# Altium footprint library PCB - CAPACITOR - ALUMINIUM - CAP ALSMD ELEC 10MM H12.5MM.pcblib: 1 footprints
Each footprint in its own frame and in the unit in brackets; x right, y up, seen from the top. Pads: shape width x height; smd on the part's side, far side on the other; paste and mask are expansions set on the pad; w line width, h text height; cw(c..) or ccw(c..) is an arc to the next point about the centre after c.
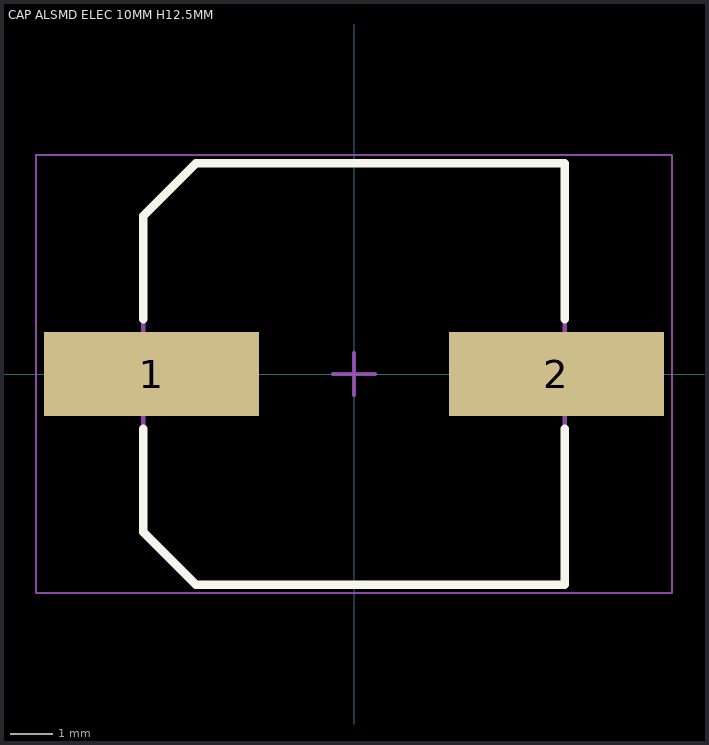
[diagram p0: the footprint, top view; thin cyan lines are the x and y axes]

## CAP ALSMD ELEC 10MM H12.5MM [mm] "Aluminum SMD Electrolytic Capacitor, 10.00mm Land Size, 10.00mm Diameter, 12.50mm Height, 12.10mm Maximum Leads Span"
height 1
pads (2):
  rect 5.1x2 smd: 1(-4.8,0) 2(4.8,0)
Top Overlay:
  lines w0.2: -5,-1.3 -5,-3.75 -3.75,-5 5,-5 5,-1.3 ; -5,1.3 -5,3.75 -3.75,5 5,5 5,1.3
Mechanical 13:
  lines w0.1: -5,-3.75 -5,3.75 -3.75,5 5,5 5,-5 -3.75,-5 -5,-3.75
Mechanical 15:
  lines w0.05: -7.55,-5.2 -7.55,5.2 7.55,5.2 7.55,-5.2 -7.55,-5.2
  lines w0.1: -0.5,0 0.5,0 ; 0,-0.5 0,0.5
3D body: height 12.5, standoff 0, extent -6.05,-5 6.05,5